# EAGLE library part HEADER_7P (library Public)
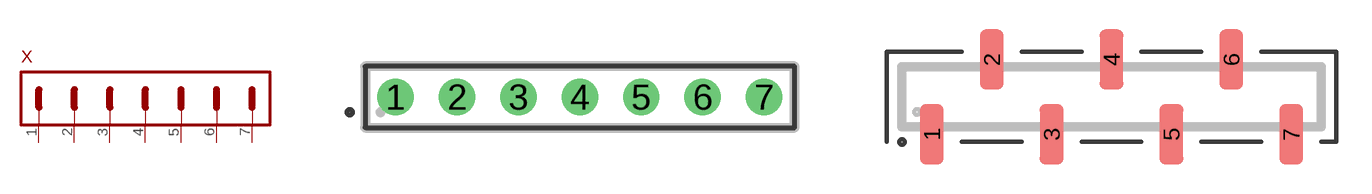
[diagram p4: symbol with the pads of HEADER_7P_1ROW_RM2.54MM_THT; footprints HEADER_7P_1ROW_RM2.54MM_THT, HEADER_7P_1ROW_RM2.54MM_SMD]

Designator prefix X

## HEADER_7P(RM2.54MM_1ROW_THT)  [HEADER_7P_1ROW_RM2.54MM_THT]
1  PIN1
2  PIN2
3  PIN3
4  PIN4
5  PIN5
6  PIN6
7  PIN7

## HEADER_7P(RM2.54MM_1ROW_SMD)  [HEADER_7P_1ROW_RM2.54MM_SMD]
Pads as for HEADER_7P_1ROW_RM2.54MM_THT

## HEADER_7P(JST-PHR)  [JST-PHR_7]
Pads as for HEADER_7P_1ROW_RM2.54MM_THT

## HEADER_7P(JST-XH)  [JST-XH_7]
Pads as for HEADER_7P_1ROW_RM2.54MM_THT

## HEADER_7P(GK0YAR-P07UC00)  [GK0YAR-P07UC00]
Pads as for HEADER_7P_1ROW_RM2.54MM_THT

## HEADER_7P(MOLEX_ONEBLADE_1MM) (ID: 214094-0070)  [MOLEX_ONEBLADE_1MM_214094-0070]
Pads as for HEADER_7P_1ROW_RM2.54MM_THT

## Footprint HEADER_7P_1ROW_RM2.54MM_THT (pad centres in mm)
drill 1: 1 -7.62,0; 2 -5.08,0; 3 -2.54,0; 4 0,0; 5 2.54,0; 6 5.08,0; 7 7.62,0

## Footprint HEADER_7P_1ROW_RM2.54MM_SMD (pad centres in mm)
smd 1 x 2.54: 1 -7.62,-1.587; 2 -5.08,1.587; 3 -2.54,-1.587; 4 0,1.587; 5 2.54,-1.587; 6 5.08,1.587; 7 7.62,-1.587

## Footprint JST-PHR_7 (pad centres in mm)
drill 0.813: 1 -6,0; 2 -4,0; 3 -2,0; 4 0,0; 5 2,0; 6 4,0; 7 6,0

## Footprint JST-XH_7 (pad centres in mm)
drill 1: 1 -7.62,0; 2 -5.08,0; 3 -2.54,0; 4 0,0; 5 2.54,0; 6 5.08,0; 7 7.62,0

## Footprint GK0YAR-P07UC00 (pad centres in mm)
drill 0.6: 1 -0.75,1.299; 2 -1.5,0; 3 -0.75,-1.299; 4 0.75,-1.299; 5 1.5,0; 6 0.75,1.299; 7 0,0
drill 0.55 pad 0.9 long: SHIELD 0,2.945

## Footprint MOLEX_ONEBLADE_1MM_214094-0070 (pad centres in mm)
smd 0.6 x 1.5: 1 -3,-2.175; 2 -2,-2.175; 3 -1,-2.175; 4 0,-2.175; 5 1,-2.175; 6 2,-2.175; 7 3,-2.175
smd 1.15 x 1.85: MECH1 -4.575,0; MECH2 4.575,0